# Altium footprint library EXB-38V103JV.PcbLib: 1 footprints
Each footprint in its own frame and in the unit in brackets; x right, y up, seen from the top. Pads: shape width x height; smd on the part's side, far side on the other; paste and mask are expansions set on the pad; w line width, h text height; cw(c..) or ccw(c..) is an arc to the next point about the centre after c.
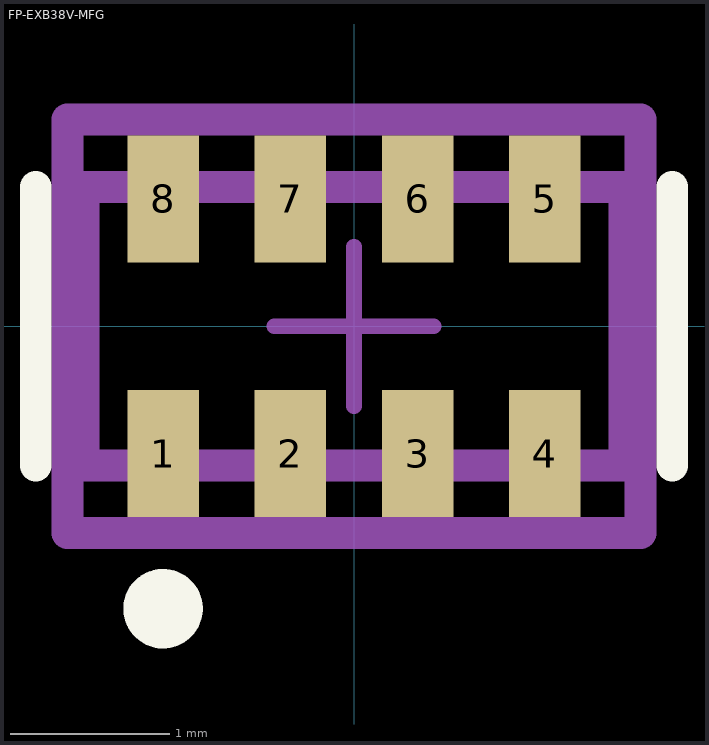
[diagram p0: the footprint, top view; thin cyan lines are the x and y axes]

## FP-EXB38V-MFG [mm]
pads (8):
  rect 0.45x0.8 smd paste+0 mask+0: 1(-1.2,-0.8) 2(-0.4,-0.8) 3(0.4,-0.8) 4(1.2,-0.8) 5(1.2,0.8) 6(0.4,0.8) 7(-0.4,0.8) 8(-1.2,0.8)
Top Overlay:
  circle w0.25: c-1.2,-1.775 r0.125
  lines w0.2: -2,-0.875 -2,0.875 ; 2,-0.875 2,0.875
Top Assembly:
  lines w0.2: -1.8,-1.3 -1.8,1.3 1.8,1.3 1.8,-1.3 -1.8,-1.3
  text ".Designator" at 0,0.189 h1
Top 3D Body:
  lines w0.2: -1.7,-0.875 -1.7,0.875 1.7,0.875 1.7,-0.875 -1.7,-0.875
Top Courtyard:
  lines w0.2: -1.8,-1.3 -1.8,1.3 1.8,1.3 1.8,-1.3 -1.8,-1.3
Top Component Center:
  lines w0.1: -0.5,0 0.5,0 ; 0,-0.5 0,0.5
3D body "Res_Panasonic_EXB-38V103JV_eec.STEP": height 0.25, standoff 0, extent -1.8,-1.3 1.8,1.3